# Altium footprint library A3PE600_PLUGA_V2.PcbLib: 1 footprints
Each footprint in its own frame and in the unit in brackets; x right, y up, seen from the top. Pads: shape width x height; smd on the part's side, far side on the other; paste and mask are expansions set on the pad; w line width, h text height; cw(c..) or ccw(c..) is an arc to the next point about the centre after c.
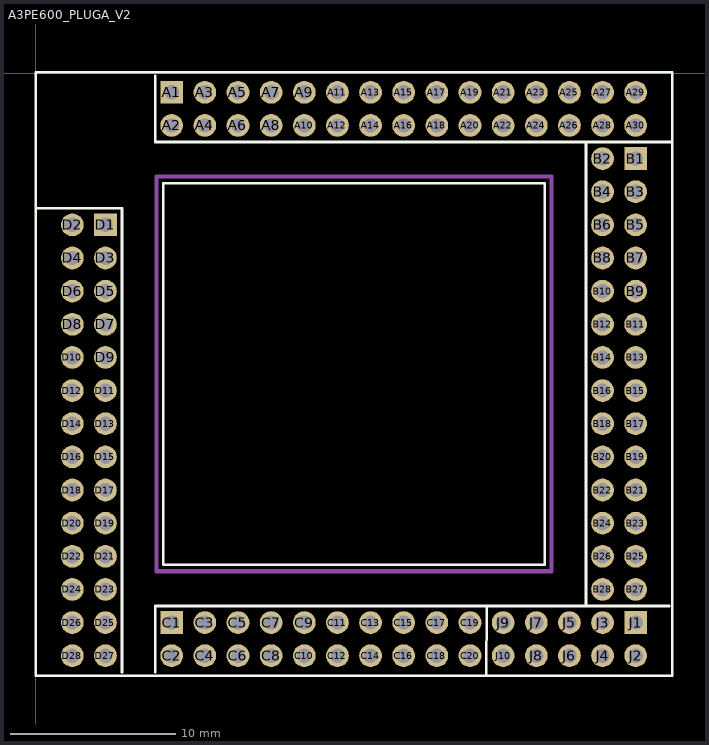
[diagram p0: the footprint, top view; thin cyan lines are the x and y axes]

## A3PE600_PLUGA_V2 [mil]
pads (116):
  rect 54x54 hole 34: A1(322.48,-45.04) B1(1424.84,-202.52) C1(322.48,-1304.88) D1(165,-360) J1(1424.84,-1304.88)
  round 54 hole 34: A2(322.48,-123.78) A3(401.22,-45.04) A4(401.22,-123.78) A5(479.96,-45.04) A6(479.96,-123.78) A7(558.7,-45.04) A8(558.7,-123.78) A9(637.44,-45.04) A10(637.44,-123.78) A11(716.18,-45.04) A12(716.18,-123.78) A13(794.92,-45.04) A14(794.92,-123.78) A15(873.66,-45.04) A16(873.66,-123.78) A17(952.4,-45.04) A18(952.4,-123.78) A19(1031.14,-45.04) A20(1031.14,-123.78) A21(1109.88,-45.04) A22(1109.88,-123.78) A23(1188.62,-45.04) A24(1188.62,-123.78) A25(1267.36,-45.04) A26(1267.36,-123.78) A27(1346.1,-45.04) A28(1346.1,-123.78) A29(1424.84,-45.04) A30(1424.84,-123.78) B2(1346.1,-202.52) B3(1424.84,-281.26) B4(1346.1,-281.26) B5(1424.84,-360) B6(1346.1,-360) B7(1424.84,-438.74) B8(1346.1,-438.74) B9(1424.84,-517.48) B10(1346.1,-517.48) B11(1424.84,-596.22) B12(1346.1,-596.22) B13(1424.84,-674.96) B14(1346.1,-674.96) B15(1424.84,-753.7) B16(1346.1,-753.7) B17(1424.84,-832.44) B18(1346.1,-832.44) B19(1424.84,-911.18) B20(1346.1,-911.18) B21(1424.84,-989.92) B22(1346.1,-989.92) B23(1424.84,-1068.66) B24(1346.1,-1068.66) B25(1424.84,-1147.4) B26(1346.1,-1147.4) B27(1424.84,-1226.14) B28(1346.1,-1226.14) C2(322.48,-1383.62) C3(401.22,-1304.88) C4(401.22,-1383.62) C5(479.96,-1304.88) C6(479.96,-1383.62) C7(558.7,-1304.88) C8(558.7,-1383.62) C9(637.44,-1304.88) C10(637.44,-1383.62) C11(716.18,-1304.88) C12(716.18,-1383.62) C13(794.92,-1304.88) C14(794.92,-1383.62) C15(873.66,-1304.88) C16(873.66,-1383.62) C17(952.4,-1304.88) C18(952.4,-1383.62) C19(1031.14,-1304.88) C20(1031.14,-1383.62) D2(86.26,-360) D3(165,-438.74) D4(86.26,-438.74) D5(165,-517.48) D6(86.26,-517.48) D7(165,-596.22) D8(86.26,-596.22) D9(165,-674.96) D10(86.26,-674.96) D11(165,-753.7) D12(86.26,-753.7) D13(165,-832.44) D14(86.26,-832.44) D15(165,-911.18) D16(86.26,-911.18) D17(165,-989.92) D18(86.26,-989.92) D19(165,-1068.66) D20(86.26,-1068.66) D21(165,-1147.4) D22(86.26,-1147.4) D23(165,-1226.14) D24(86.26,-1226.14) D25(165,-1304.88) D26(86.26,-1304.88) D27(165,-1383.62) D28(86.26,-1383.62) J2(1424.84,-1383.62) J3(1346.1,-1304.88) J4(1346.1,-1383.62) J5(1267.36,-1304.88) J6(1267.36,-1383.62) J7(1188.62,-1304.88) J8(1188.62,-1383.62) J9(1109.88,-1304.88) J10(1109.88,-1383.62)
Top Overlay:
  lines w6: 0,-320.63 204.37,-320.63 204.37,-1422.99 ; 283.11,-1422.99 283.11,-1265.51 1070.51,-1265.51 ; 283.11,-5.67 283.11,-163.15 1510,-163.15 ; 1306.73,-1265.51 1306.73,-163.15 ; 1505,-1265.51 1070.51,-1265.51 ; 1070.51,-1265.51 1070,-1430 1070.51,-1265.51 ; -0.35,-1430.87 -0.35,2.2 1511.46,2.2 1511.46,-1430.87 -0.35,-1430.87 ; 302.8,-1167.09 1208.31,-1167.09 1208.31,-261.57 302.8,-261.57 302.8,-1167.09
Mechanical 1:
  lines w10: 286.48,-1183.04 1224.48,-1183.04 1224.48,-245.04 286.48,-245.04 286.48,-1183.04
3D body: height 250, standoff 0, extent 0,-1430 1510,0